# Altium integrated library LQW15AN2N2G80D.IntLib: 1 symbol
Pins are listed as number, name and electrical type; pins without a type are passive.

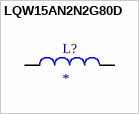
[diagram p0: symbol LQW15AN2N2G80D]

## LQW15AN2N2G80D
designator L?
Inductor RF Chip Unshielded Wirewound 2.2nH 2% 100MHz 30Q-Factor Ceramic 2.53A 22mOhm DCR 0402 Automotive T/R; MP: LQW15AN2N2G80D; Package: None; Price: None; Value: *; Availability: Unavailable
footprint INDC1006X60N
pins: 1, 2